# Altium footprint library DFN10X06X50-2.PcbLib: 1 footprints
Each footprint in its own frame and in the unit in brackets; x right, y up, seen from the top. Pads: shape width x height; smd on the part's side, far side on the other; paste and mask are expansions set on the pad; w line width, h text height; cw(c..) or ccw(c..) is an arc to the next point about the centre after c.
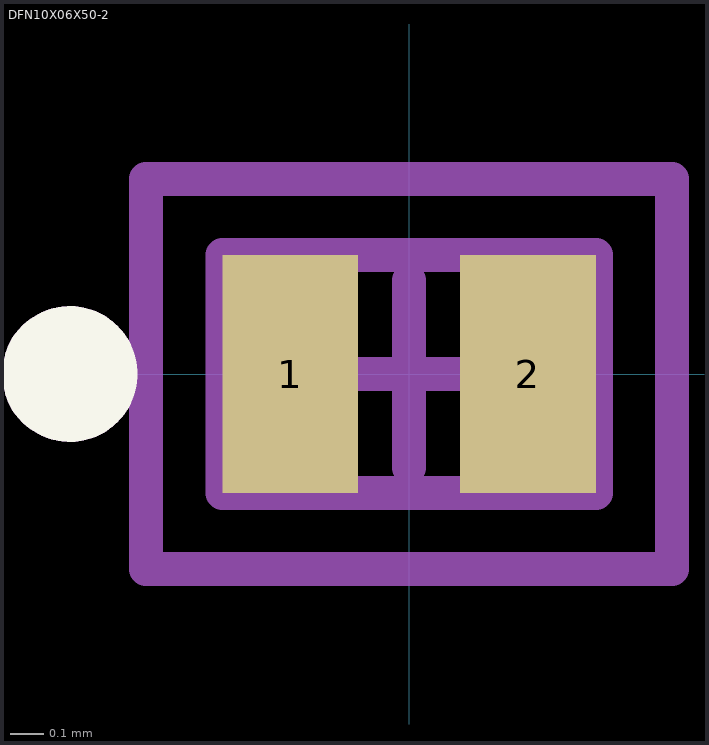
[diagram p0: the footprint, top view; thin cyan lines are the x and y axes]

## DFN10X06X50-2 [mm] "DIODESINC_X1-DFN1006"
height 0.5
pads (2):
  rect 0.4x0.7 smd mask+0.05: 1(-0.35,0) 2(0.35,0)
Top Overlay:
  circle w0.2: c-1,0 r0.1
Mechanical 13:
  circle w0.2: c-1,0 r0.1
  lines w0.1: -0.55,-0.35 -0.55,0.35 0.55,0.35 0.55,-0.35 -0.55,-0.35
Mechanical 15:
  lines w0.1: -0.275,0 0.275,0 ; 0,-0.275 0,0.275 ; -0.775,-0.575 -0.775,0.575 0.775,0.575 0.775,-0.575 -0.775,-0.575
3D body: height 0.5, standoff 0, extent -0.55,-0.35 0.55,0.35